# Altium footprint library HDDR_9x1_0.PcbLib: 1 footprints
Each footprint in its own frame and in the unit in brackets; x right, y up, seen from the top. Pads: shape width x height; smd on the part's side, far side on the other; paste and mask are expansions set on the pad; w line width, h text height; cw(c..) or ccw(c..) is an arc to the next point about the centre after c.
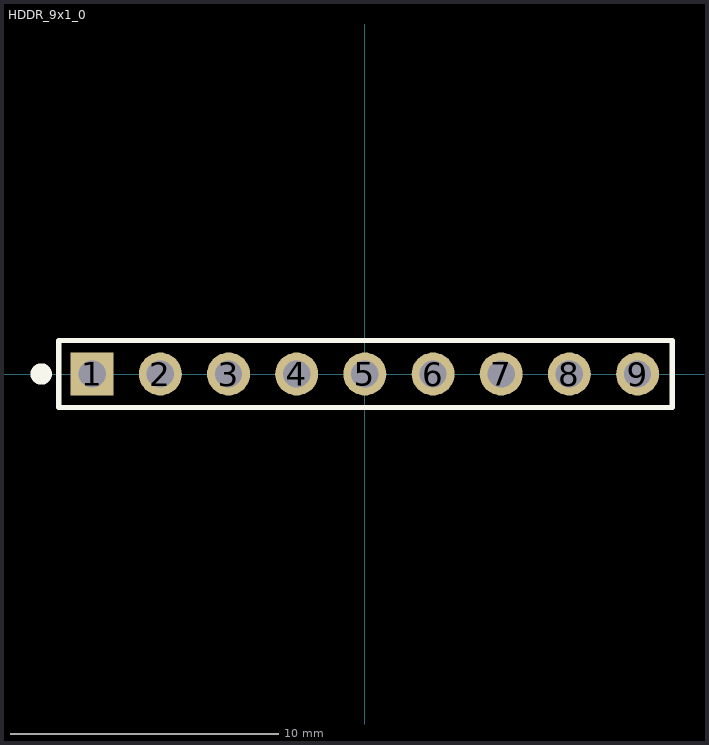
[diagram p0: the footprint, top view; thin cyan lines are the x and y axes]

## HDDR_9x1_0 [mm]
pads (9):
  rect 1.6x1.6 hole 1.02: 1(-10.16,0)
  round 1.6 hole 1.02: 2(-7.62,0) 3(-5.08,0) 4(-2.54,0) 5(0,0) 6(2.54,0) 7(5.08,0) 8(7.62,0) 9(10.16,0)
Top Overlay:
  circle w0.4: c-12.06,0 r0.2
  lines w0.2: -11.41,-1.25 -11.41,1.25 11.45,1.25 11.45,-1.25 -11.41,-1.25
3D body "hddr_male_9x1.SLDPRT": height 8.54, standoff -3, extent -11.43,-1.29 11.43,1.25